# Altium footprint library ECSlib.PcbLib: 53 footprints (part 4 of 4)
Each footprint in its own frame and in the unit in brackets; x right, y up, seen from the top. Pads: shape width x height; smd on the part's side, far side on the other; paste and mask are expansions set on the pad; w line width, h text height; cw(c..) or ccw(c..) is an arc to the next point about the centre after c.
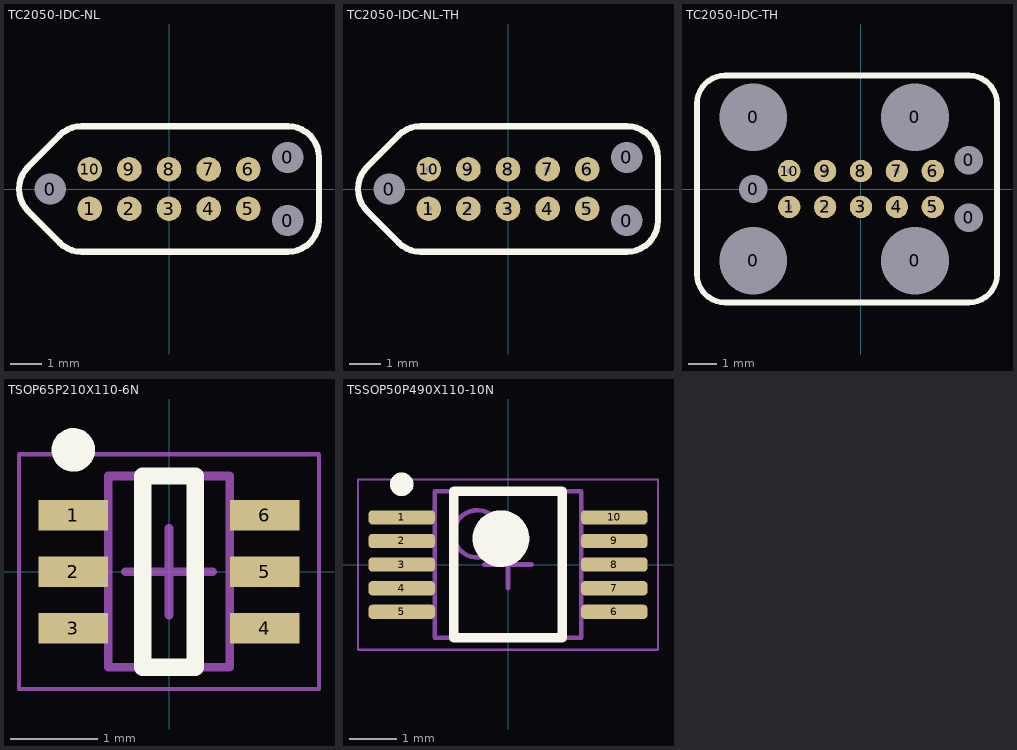
[diagram p3: the footprints below, top view; thin cyan lines are the x and y axes]

## TC2050-IDC-NL [mm]
pads (13):
  round 0.79 hole 1 unplated: 0(-3.81,0) 0(3.81,-1.015) 0(3.81,1.015)
  round 0.79 smd paste-0.8: 1(-2.54,-0.635) 2(-1.27,-0.635) 3(0,-0.635) 4(1.27,-0.635) 5(2.54,-0.635) 6(2.54,0.635) 7(1.27,0.635) 8(0,0.635) 9(-1.27,0.635) 10(-2.54,0.635)
Top Overlay:
  lines w0.2: -3.507,-1.722 ccw(c-2.8,-1.015) -2.8,-2.015 3.81,-2.015 ccw(c3.81,-1.015) 4.81,-1.015 4.81,1.015 ccw(c3.81,1.015) 3.81,2.015 -2.8,2.015 ccw(c-2.8,1.015) -3.507,1.722 ; -3.505,-1.72 -4.517,-0.707 cw(c-3.81,0) -4.517,0.707 -3.505,1.72

## TC2050-IDC-NL-TH [mm]
pads (13):
  round 0.79 hole 1 unplated: 0(-3.81,0) 0(3.81,-1.015) 0(3.81,1.015)
  round 0.79 hole 0.2 unplated paste-0.8: 1(-2.54,-0.635) 2(-1.27,-0.635) 3(0,-0.635) 4(1.27,-0.635) 5(2.54,-0.635) 6(2.54,0.635) 7(1.27,0.635) 8(0,0.635) 9(-1.27,0.635) 10(-2.54,0.635)
Top Overlay:
  lines w0.2: -3.507,-1.722 ccw(c-2.8,-1.015) -2.8,-2.015 3.81,-2.015 ccw(c3.81,-1.015) 4.81,-1.015 4.81,1.015 ccw(c3.81,1.015) 3.81,2.015 -2.8,2.015 ccw(c-2.8,1.015) -3.507,1.722 ; -3.505,-1.72 -4.517,-0.707 cw(c-3.81,0) -4.517,0.707 -3.505,1.72

## TC2050-IDC-TH [mm]
pads (17):
  round 0.79 hole 2.4 unplated: 0(-3.81,-2.54) 0(-3.81,2.54) 0(1.905,-2.54) 0(1.905,2.54)
  round 0.79 hole 1 unplated: 0(-3.81,0) 0(3.81,-1.015) 0(3.81,1.015)
  round 0.79 hole 0.2 unplated paste-0.8: 1(-2.54,-0.635) 2(-1.27,-0.635) 3(0,-0.635) 4(1.27,-0.635) 5(2.54,-0.635) 6(2.54,0.635) 7(1.27,0.635) 8(0,0.635) 9(-1.27,0.635) 10(-2.54,0.635)
Top Overlay:
  lines w0.2: -5.8,-3.015 ccw(c-4.8,-3.015) -4.8,-4.015 3.81,-4.015 ccw(c3.81,-3.015) 4.81,-3.015 4.81,3.015 ccw(c3.81,3.015) 3.81,4.015 -4.8,4.015 ccw(c-4.8,3.015) -5.8,3.015 -5.8,-3.015
Bottom Overlay:
  lines w0.2: -4.62,-3.7 -4.62,-5.2 -3.02,-5.2 -3.02,-3.7 ; -4.6,3.7 -4.6,5.2 -3,5.2 -3,3.7 ; 1.095,-3.7 1.095,-5.2 2.695,-5.2 2.695,-3.7 ; 1.115,3.7 1.115,5.2 2.715,5.2 2.715,3.7

## TSOP65P210X110-6N [mm] "TSOP, 6-Leads, Body 2.00x1.25mm, Pitch 0.65mm, IPC Medium Density"
height 1.1
pads (6):
  rect 0.8x0.35 smd: 1(-1.1,0.65) 2(-1.1,0) 3(-1.1,-0.65) 4(1.1,-0.65) 5(1.1,0) 6(1.1,0.65)
Top Overlay:
  circle w0.25: c-1.1,1.4 r0.125
  lines w0.2: -0.3,-1.1 -0.3,1.1 0.3,1.1 0.3,-1.1 -0.3,-1.1
Assembly Top:
  lines w0.1: -0.7,-1.1 -0.7,1.1 0.7,1.1 0.7,-1.1 -0.7,-1.1
Courtyard Top:
  lines w0.05: -1.725,-1.35 -1.725,1.35 1.725,1.35 1.725,-1.35 -1.725,-1.35
  lines w0.1: -0.5,0 0.5,0 ; 0,-0.5 0,0.5
3D body: height 1.1, standoff 0, extent -0.7,-1.1 0.7,1.1

## TSSOP50P490X110-10N [mm] "TSSOP, 10-Leads, Body 3.00x3.00mm, Pitch 0.50mm, IPC Medium Density"
height 1.1
pads (10):
  rrect50% 1.4x0.3 smd: 1(-2.25,1) 2(-2.25,0.5) 3(-2.25,0) 4(-2.25,-0.5) 5(-2.25,-1) 6(2.25,-1) 7(2.25,-0.5) 8(2.25,0) 9(2.25,0.5) 10(2.25,1)
Top Overlay:
  circle w0.25: c-2.25,1.7 r0.125
  circle w0.6: c-0.15,0.55 r0.3
  lines w0.2: -1.15,-1.55 -1.15,1.55 1.15,1.55 1.15,-1.55 -1.15,-1.55
Assembly Top:
  circle w0.1: c-0.65,0.65 r0.5
  lines w0.1: -1.55,-1.55 -1.55,1.55 1.55,1.55 1.55,-1.55 -1.55,-1.55
Courtyard Top:
  lines w0.05: -3.175,-1.8 -3.175,1.8 3.175,1.8 3.175,-1.8 -3.175,-1.8
  lines w0.1: -0.5,0 0.5,0 ; 0,-0.5 0,0.5
3D body: height 1.1, standoff 0.05, extent -1.55,-1.55 1.55,1.55